# EAGLE library part TC7129 (library microchip2)
The TC7129 is a 4-1/2 digit Analog-to-Digital Converter (ADC) that directly drives a multiplexed Liquid Crystal Display (LCD). Fabricated in high-performance, lowpower CMOS, the TC7129 ADC is designed specifically for high-resolution, battery-powered digital multimeter applications. The traditional dual-slope method of A/D conversion has been enhanced with a successive integration technique to produce readings accurate to better than 0.005% of full-scale and resolution down to 10 μV per count. The TC7129 includes features important to multimeter applications. It detects and indicates low battery condition. A continuity output drives an annunciator on the display and can be used with an external driver to sound an audible alarm. Overrange and underrange outputs, along with a range-change input, provide the ability to create auto-ranging instruments. For snapshot readings, the TC7129 includes a latch-and-hold input to freeze the present reading. This combination of features makes the TC7129 the ideal choice for full-featured multimeter and digital measurement applications.
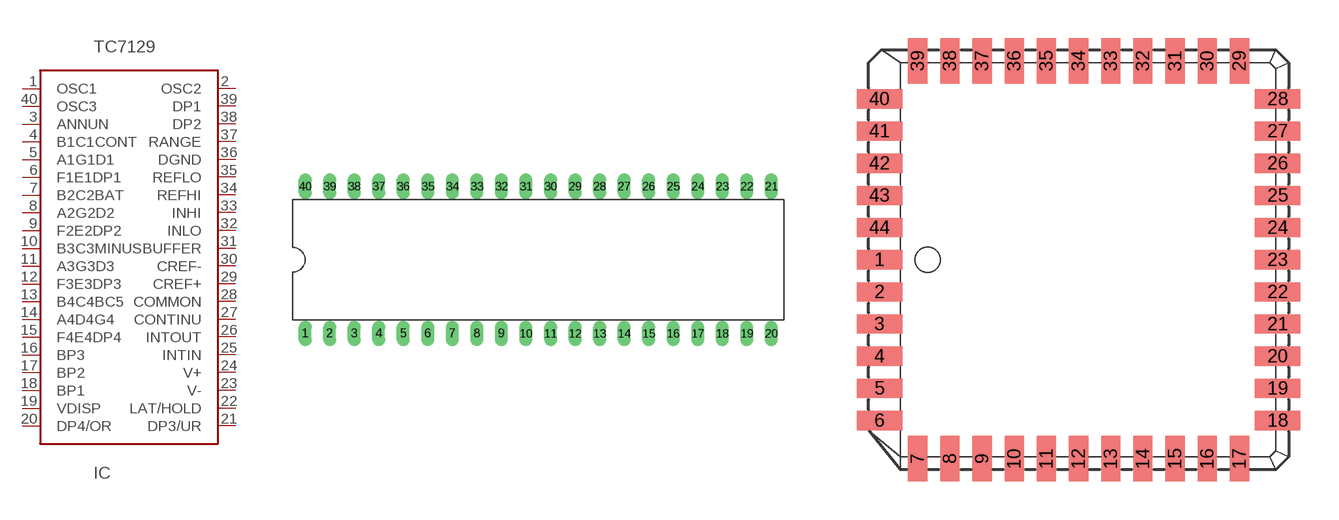
[diagram p180: symbol with the pads of DIL40; footprints DIL40, PLCC-44]

Designator prefix IC

## TC7129TC7129CPL  [DIL40]
1  OSC1  in
2  OSC2  out
3  ANNUN  out
4  B1C1CONT  out
5  A1G1D1  out
6  F1E1DP1  out
7  B2C2BAT  out
8  A2G2D2  out
9  F2E2DP2  out
10  B3C3MINUS  out
11  A3G3D3  out
12  F3E3DP3  out
13  B4C4BC5  out
14  A4D4G4  out
15  F4E4DP4  out
16  BP3  out
17  BP2  out
18  BP1  out
19  VDISP
20  DP4/OR
21  DP3/UR
22  LAT/HOLD
23  V-  pwr
24  V+  pwr
25  INTIN  in
26  INTOUT  out
27  CONTINU
28  COMMON
29  CREF+
30  CREF-
31  BUFFER  out
32  INLO  in
33  INHI  in
34  REFHI
35  REFLO
36  DGND  pwr
37  RANGE
38  DP2
39  DP1
40  OSC3  out

## TC7129TC7129CLW  [PLCC-44]
2  OSC1  in
3  OSC3  out
4  ANNUN  out
5  B1C1CONT  out
6  A1G1D1  out
7  F1E1DP1  out
8  B2C2BAT  out
9  A2G2D2  out
10  F2E2DP2  out
11  B3C3MINUS  out
13  A3G3D3  out
14  F3E3DP3  out
15  B4C4BC5  out
16  A4D4G4  out
17  F4E4DP4  out
18  BP3  out
19  BP2  out
20  BP1  out
21  VDISP
22  DP4/OR
24  DP3/UR
25  LAT/HOLD
26  V-  pwr
27  V+  pwr
28  INTIN  in
29  INTOUT  out
30  CONTINU
31  COMMON
32  CREF+
33  CREF-
35  BUFFER  out
36  INLO  in
37  INHI  in
38  REFHI
39  REFLO
40  DGND  pwr
41  RANGE
42  DP2
43  DP1
44  OSC2  out

## TC7129TC7129CKW  [PQFP44]
1  F1E1DP1  out
2  B2C2BAT  out
3  A2G2D2  out
4  F2E2DP2  out
5  B3C3MINUS  out
7  A3G3D3  out
8  F3E3DP3  out
9  B4C4BC5  out
10  A4D4G4  out
11  F4E4DP4  out
12  BP3  out
13  BP2  out
14  BP1  out
15  VDISP
16  DP4/OR
18  DP3/UR
19  LAT/HOLD
20  V-  pwr
21  V+  pwr
22  INTIN  in
23  INTOUT  out
24  CONTINU
25  COMMON
26  CREF+
27  CREF-
29  BUFFER  out
30  INLO  in
31  INHI  in
32  REFHI
33  REFLO
34  DGND  pwr
35  RANGE
36  DP2
37  DP1
38  OSC2  out
40  OSC1  in
41  OSC3  out
42  ANNUN  out
43  B1C1CONT  out
44  A1G1D1  out

## Footprint DIL40 (pad centres in mm)
Dual In Line package type P
drill 0.813 long: 1 -24.13,-7.62; 2 -21.59,-7.62; 3 -19.05,-7.62; 4 -16.51,-7.62; 5 -13.97,-7.62; 6 -11.43,-7.62; 7 -8.89,-7.62; 8 -6.35,-7.62; 9 -3.81,-7.62; 10 -1.27,-7.62; 11 1.27,-7.62; 12 3.81,-7.62; 13 6.35,-7.62; 14 8.89,-7.62; 15 11.43,-7.62; 16 13.97,-7.62; 17 16.51,-7.62; 18 19.05,-7.62; 19 21.59,-7.62; 20 24.13,-7.62; 21 24.13,7.62; 22 21.59,7.62; 23 19.05,7.62; 24 16.51,7.62; 25 13.97,7.62; 26 11.43,7.62; 27 8.89,7.62; 28 6.35,7.62; 29 3.81,7.62; 30 1.27,7.62; 31 -1.27,7.62; 32 -3.81,7.62; 33 -6.35,7.62; 34 -8.89,7.62; 35 -11.43,7.62; 36 -13.97,7.62; 37 -16.51,7.62; 38 -19.05,7.62; 39 -21.59,7.62; 40 -24.13,7.62

## Footprint PLCC-44 (pad centres in mm)
Plastic LCC square package type L
smd 1.8 x 0.76: 1 -7.86,0; 2 -7.86,-1.27; 3 -7.86,-2.54; 4 -7.86,-3.81; 5 -7.86,-5.08; 6 -7.86,-6.35; 18 7.86,-6.35; 19 7.86,-5.08; 20 7.86,-3.81; 21 7.86,-2.54; 22 7.86,-1.27; 23 7.86,0; 24 7.86,1.27; 25 7.86,2.54; 26 7.86,3.81; 27 7.86,5.08; 28 7.86,6.35; 40 -7.86,6.35; 41 -7.86,5.08; 42 -7.86,3.81; 43 -7.86,2.54; 44 -7.86,1.27
smd 0.76 x 1.8: 7 -6.35,-7.86; 8 -5.08,-7.86; 9 -3.81,-7.86; 10 -2.54,-7.86; 11 -1.27,-7.86; 12 0,-7.86; 13 1.27,-7.86; 14 2.54,-7.86; 15 3.81,-7.86; 16 5.08,-7.86; 17 6.35,-7.86; 29 6.35,7.86; 30 5.08,7.86; 31 3.81,7.86; 32 2.54,7.86; 33 1.27,7.86; 34 0,7.86; 35 -1.27,7.86; 36 -2.54,7.86; 37 -3.81,7.86; 38 -5.08,7.86; 39 -6.35,7.86

## Footprint PQFP44 (pad centres in mm)
Plastic Quad Flat Package
smd 2 x 0.5: 1 -6.2,4; 2 -6.2,3.2; 3 -6.2,2.4; 4 -6.2,1.6; 5 -6.2,0.8; 6 -6.2,0; 7 -6.2,-0.8; 8 -6.2,-1.6; 9 -6.2,-2.4; 10 -6.2,-3.2; 11 -6.2,-4; 23 6.2,-4; 24 6.2,-3.2; 25 6.2,-2.4; 26 6.2,-1.6; 27 6.2,-0.8; 28 6.2,0; 29 6.2,0.8; 30 6.2,1.6; 31 6.2,2.4; 32 6.2,3.2; 33 6.2,4
smd 0.5 x 2: 12 -4,-6.2; 13 -3.2,-6.2; 14 -2.4,-6.2; 15 -1.6,-6.2; 16 -0.8,-6.2; 17 0,-6.2; 18 0.8,-6.2; 19 1.6,-6.2; 20 2.4,-6.2; 21 3.2,-6.2; 22 4,-6.2; 34 4,6.2; 35 3.2,6.2; 36 2.4,6.2; 37 1.6,6.2; 38 0.8,6.2; 39 0,6.2; 40 -0.8,6.2; 41 -1.6,6.2; 42 -2.4,6.2; 43 -3.2,6.2; 44 -4,6.2